# EAGLE library part MCP4725 (library omcAD)
MCP4725 - 12-Bit Digital-to-Analog Converter with EEPROM Memory 12-Bit Resolution On-Board Non-Volatile Memory (EEPROM) ±0.2 LSB DNL (typical) External A0 Address Pin Fast Settling Time: 6 μs (typical) External Voltage Reference (VDD) Rail-to-Rail Output Low Power Consumption Single-Supply Operation: 2.7V to 5.5V I2CTM Interface: Eight Available Addresses Standard (100 kbps), Fast (400 kbps), and High-Speed (3.4 Mbps) Modes Small 6-lead SOT-23 Package Extended Temperature Range: -40°C to +125°C Datasheet: Microchip <http://ww1.microchip.com/downloads/en/DeviceDoc/22039d.pdf> Reichelt <https://cdn-reichelt.de/documents/datenblatt/A200/MCP_4725A0T-ECH_DB-EN.pdf>
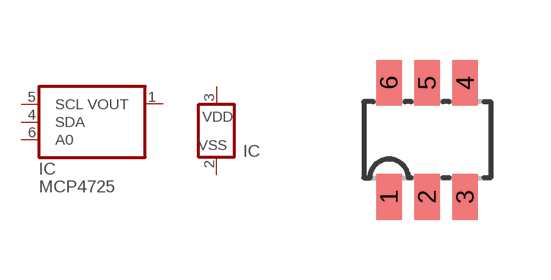
[diagram p0: symbol with the pads of SOT23-6; footprint SOT23-6]

Designator prefix IC; gates G$1=DAC_I2C_OUT1_A1 G$2=PBOX_SUP1

## MCP4725-A0T (DIST#REICHELT#: MCP 4725A0T-E/CH; VALUE: MC4725; VENDOR#: Microchip,MCP4725A0T-E/CH)  [SOT23-6]
1  G$1:VOUT
2  G$2:VSS  sup
3  G$2:VDD  pwr
4  G$1:SDA  oc
5  G$1:SCL  oc
6  G$1:A0  in

## Footprint SOT23-6 (pad centres in mm)
SOT23 6-lead Package SOT23-6, SOT-23/6 Technology: SMD Mechanical reference <http://www.vishay.com/docs/83316/sot236l.pdf> (Vishay)
smd 0.635 x 1.143: 1 0.953,1.111; 2 1.905,1.111; 3 2.857,1.111; 4 2.857,3.969; 5 1.905,3.969; 6 0.953,3.969